# EAGLE library part LSM9DS0 (library Lysenko_Eagle_Lib)
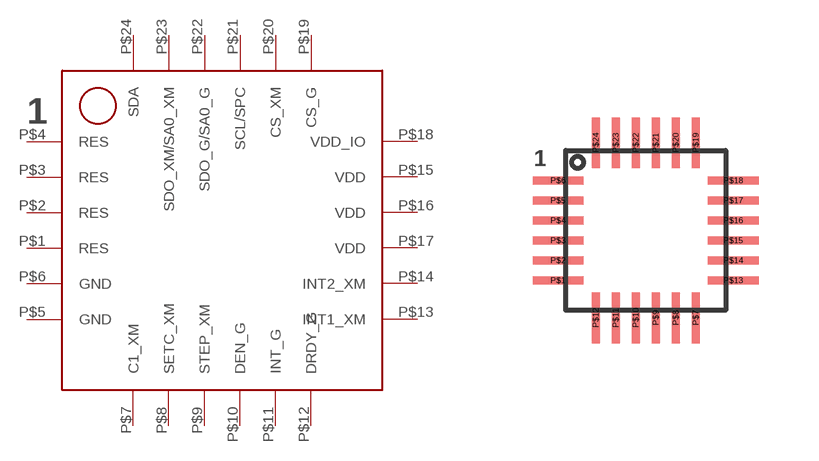
[diagram p7: symbol with the pads of LGA-24; footprint LGA-24]

Designator prefix -

## LSM9DS0  [LGA-24]
P$1  RES
P$2  RES
P$3  RES
P$4  RES
P$5  GND
P$6  GND
P$7  C1_XM
P$8  SETC_XM
P$9  STEP_XM
P$10  DEN_G
P$11  INT_G
P$12  DRDY_G
P$13  INT1_XM
P$14  INT2_XM
P$15  VDD
P$16  VDD
P$17  VDD
P$18  VDD_IO
P$19  CS_G
P$20  CS_XM
P$21  SCL/SPC
P$22  SDO_G/SA0_G
P$23  SDO_XM/SA0_XM
P$24  SDA

## Footprint LGA-24 (pad centres in mm)
smd 1.27 x 0.2: P$1 -0.19,0.75; P$2 -0.19,1.25; P$3 -0.19,1.75; P$4 -0.19,2.25; P$5 -0.19,2.75; P$6 -0.19,3.25; P$13 4.19,0.75; P$14 4.19,1.25; P$15 4.19,1.75; P$16 4.19,2.25; P$17 4.19,2.75; P$18 4.19,3.25
smd 0.2 x 1.27: P$7 3.25,-0.19; P$8 2.75,-0.19; P$9 2.25,-0.19; P$10 1.75,-0.19; P$11 1.25,-0.19; P$12 0.75,-0.19; P$19 3.25,4.19; P$20 2.75,4.19; P$21 2.25,4.19; P$22 1.75,4.19; P$23 1.25,4.19; P$24 0.75,4.19